# Altium footprint library Switches.PcbLib: 1 footprints
Each footprint in its own frame and in the unit in brackets; x right, y up, seen from the top. Pads: shape width x height; smd on the part's side, far side on the other; paste and mask are expansions set on the pad; w line width, h text height; cw(c..) or ccw(c..) is an arc to the next point about the centre after c.
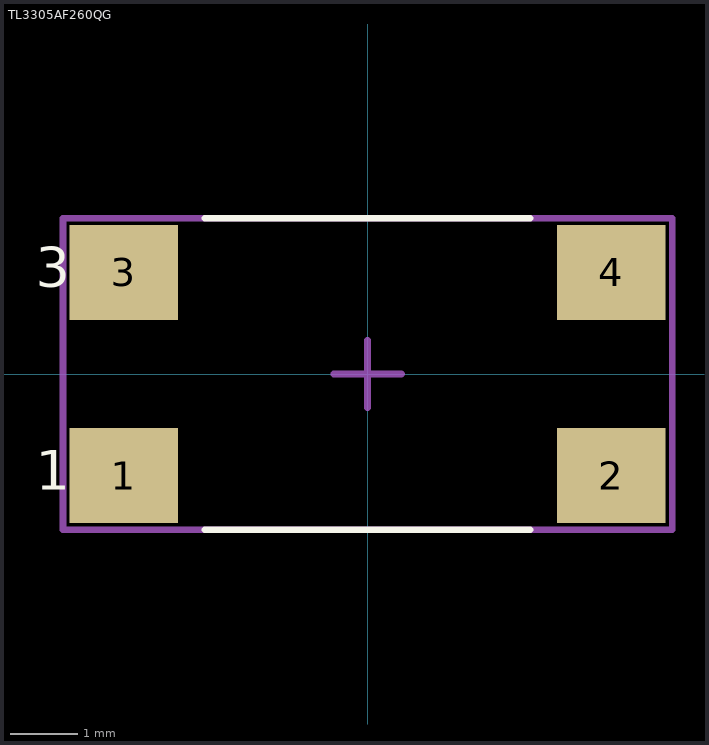
[diagram p0: the footprint, top view; thin cyan lines are the x and y axes]

## TL3305AF260QG [mm]
pads (4):
  rect 1.6x1.4 smd mask+0.05: 1(-3.6,-1.5) 2(3.6,-1.5) 3(-3.6,1.5) 4(3.6,1.5)
Top Overlay:
  lines w0.1: -2.4,-2.3 2.4,-2.3 ; -2.4,2.3 2.4,2.3
  text "3" at -4.9,1.1 h1
  text "1" at -4.9,-1.9 h1
Mechanical 15:
  lines w0.1: -0.5,0 0.5,0 ; 0,-0.5 0,0.5 ; -4.5,-2.3 -4.5,2.3 4.5,2.3 4.5,-2.3 -4.5,-2.3
3D body "TL3305AF260QG.step": height 3.8, standoff 0, extent -3.75,-2.25 3.75,2.25